# Altium footprint library Altium-INDUC.PcbLib: 28 footprints (part 1 of 2)
Each footprint in its own frame and in the unit in brackets; x right, y up, seen from the top. Pads: shape width x height; smd on the part's side, far side on the other; paste and mask are expansions set on the pad; w line width, h text height; cw(c..) or ccw(c..) is an arc to the next point about the centre after c.
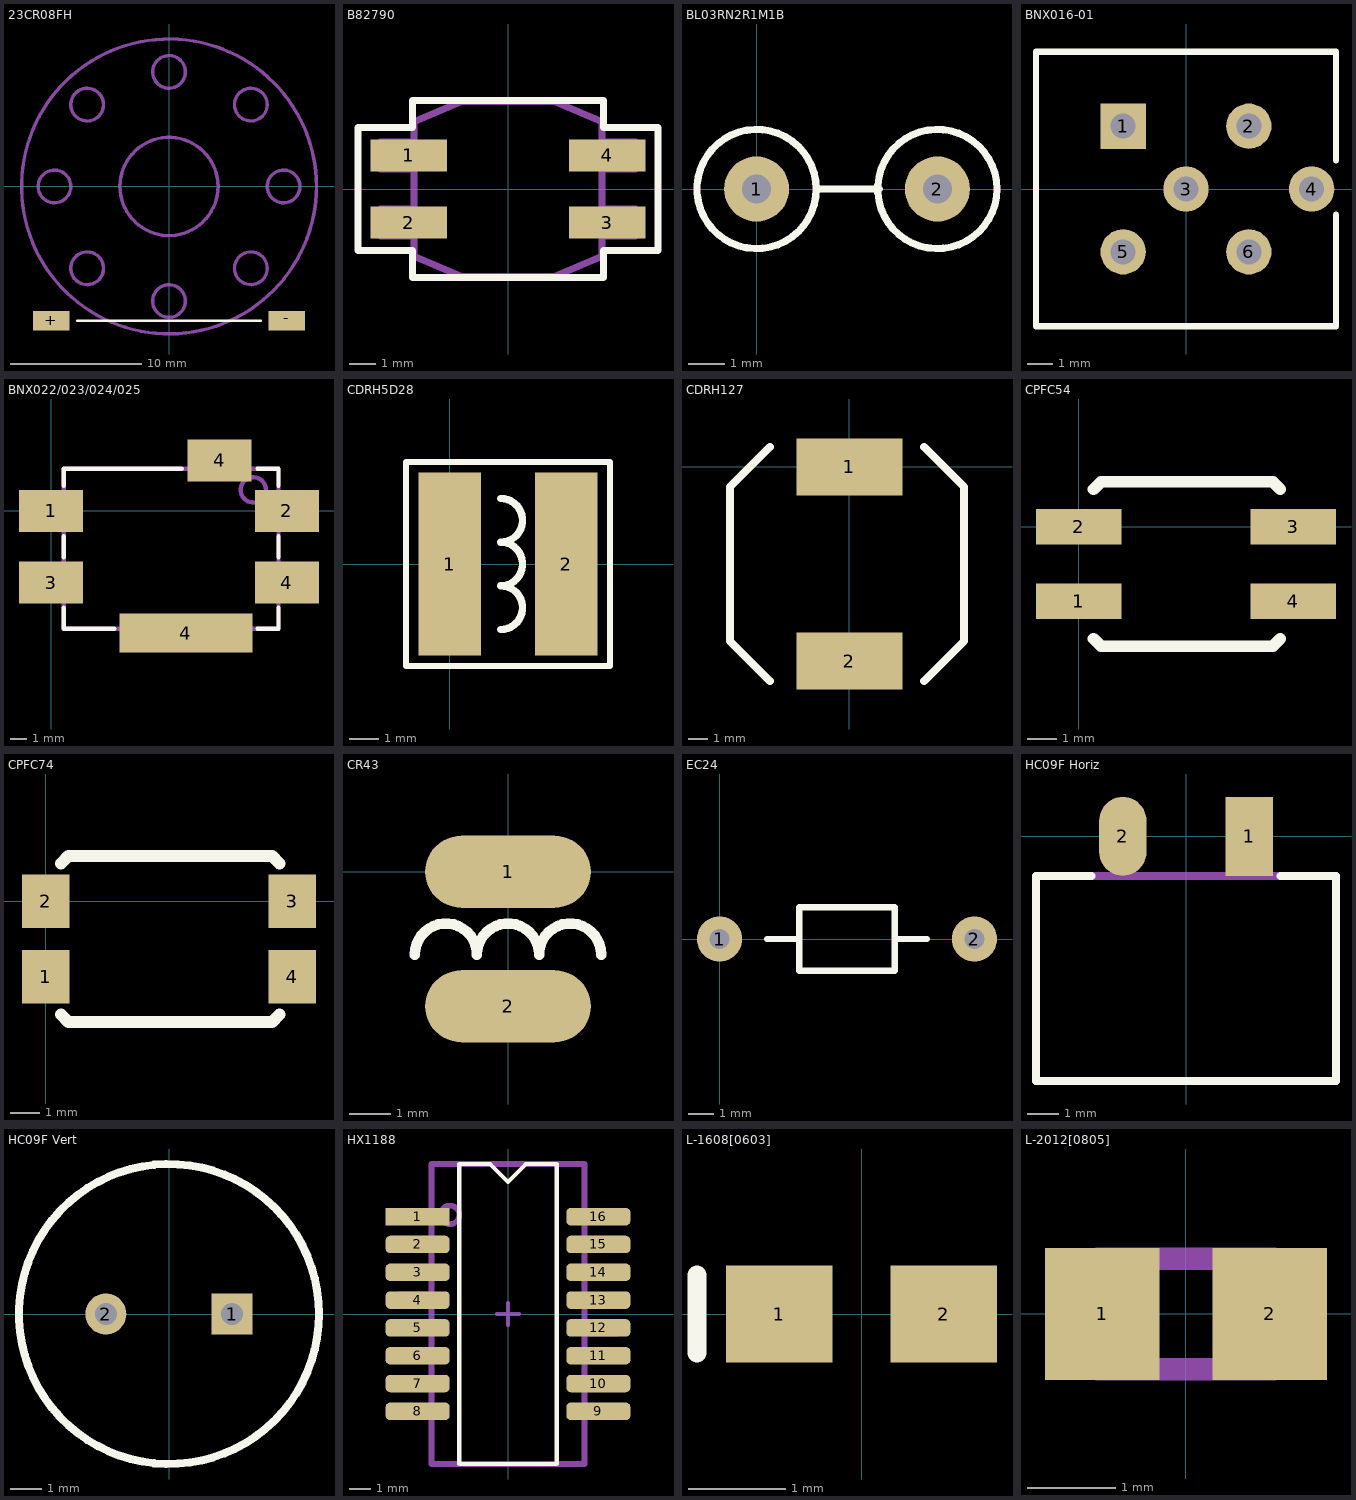
[diagram p0: the footprints below, top view; thin cyan lines are the x and y axes]

## 23CR08FH [mm] "Audio speaker d=23mm"
pads (2):
  rect 2.8x1.5 smd: +(-9,-10.25) -(9,-10.25)
Top Overlay:
  lines w0.2: -7,-10.25 7,-10.25
Mechanical 13:
  circle w0.254: c0,0 r11.261
  circle w0.254: c0,8.75 r1.25
  circle w0.254: c0,0 r3.75
  circle w0.254: c0,-8.75 r1.25
  circle w0.254: c8.75,0 r1.25
  circle w0.254: c-8.75,0 r1.25
  circle w0.254: c-6.25,6.25 r1.25
  circle w0.254: c6.25,6.25 r1.25
  circle w0.254: c6.25,-6.25 r1.25
  circle w0.254: c-6.25,-6.25 r1.25
  text ".Designator" at -3.375,-13.15 h2
3D body: height 7.3, standoff 3.8, extent -11.5,-11.5 11.409,11.455
3D body: height 3.8, standoff 2.2, extent -6.25,-6.25 6.3,6.325

## B82790 [mm]
height 4.8
pads (4):
  rect 2.85x1.2 smd: 1(-3.7,1.25) 2(-3.7,-1.25) 3(3.7,-1.25) 4(3.7,1.25)
Top Overlay:
  lines w0.254: -5.588,-2.286 -5.588,2.286 -3.556,2.286 -3.556,3.302 3.556,3.302 3.556,2.286 5.588,2.286 5.588,-2.286 3.556,-2.286 3.556,-3.302 -3.556,-3.302 -3.556,-2.286 -5.588,-2.286
Mechanical 13:
  lines w0.254: -3.5,-1.75 -4.75,-1.75 -4.75,-0.75 -3.5,-0.75 ; -3.5,0.75 -4.75,0.75 -4.75,1.75 -3.5,1.75 ; 3.5,-1.75 4.75,-1.75 4.75,-0.75 3.5,-0.75 ; 3.5,0.75 4.75,0.75 4.75,1.75 3.5,1.75 ; -3.5,-2.5 -3.5,2.5 -1.75,3.25 1.75,3.25 3.5,2.5 3.5,-2.5 1.75,-3.25 -1.75,-3.25 -3.5,-2.5
  text ".Designator" at -3.625,4.1 h2
3D body: height 4.8, standoff 0, extent -3.555,-3.301 3.555,3.301

## BL03RN2R1M1B [mm]
height 7.5
pads (2):
  round 1.8 hole 0.8: 1(0,0) 2(5,0)
Top Overlay:
  circle w0.2: c5,0 r1.65
  circle w0.2: c0,0 r1.65
  lines w0.2: 1.65,0 3.4,0
3D body: height 7.5, standoff 1, extent -1.141,-1.148 1.15,1.148
3D body: height 7.5, standoff 1, extent 3.859,-1.148 6.15,1.148

## BNX016-01 [mm]
height 8
pads (6):
  rect 1.8x1.8 hole 1: 1(-2.5,2.5)
  round 1.8 hole 1: 2(2.5,2.5) 3(0,0) 4(5,0) 5(-2.5,-2.5) 6(2.5,-2.5)
Top Overlay:
  lines w0.254: 5.969,-1.016 5.969,-5.461 -5.969,-5.461 -5.969,5.461 5.969,5.461 5.969,1.143
3D body: height 8, standoff 0, extent -5.969,-5.461 5.969,5.461

## BNX022/023/024/025 [mm] "SMD Noise Supressor"
pads (6):
  rect 3.8x2.5 smd: 1(0,0) 2(14,0) 3(0,-4.25) 4(10,3) 4(14,-4.25)
  rect 7.9x2.3 smd: 4(8,-7.25)
Top Overlay:
  lines w0.254: 0.75,-5.75 0.75,-7 3.75,-7 ; 0.75,-2.75 0.75,-1.5 ; 0.75,1.5 0.75,2.5 7.75,2.5 ; 12.25,-7 13.5,-7 13.5,-5.75 ; 12.25,2.5 13.5,2.5 13.5,1.5 ; 13.5,-2.75 13.5,-1.5
Mechanical 13:
  circle w0.254: c12,1.25 r0.75
  lines w0.254: 0.75,-7 13.5,-7 13.5,2.5 0.75,2.5 0.75,-7
  text ".Designator" at 0.375,3.85 h2
3D body: height 3.3, standoff 0.2, extent 0.75,-7 13.5,2.5

## CDRH5D28 [mm]
pads (2):
  rect 2.15x6.3 smd: 1(0,0) 2(4,0)
Top Overlay:
  lines w0.2: -1.5,-3.5 5.5,-3.5 5.5,3.5 -1.5,3.5 -1.5,-3.5
  lines w0.254: 1.75,-2.25 ccw(c1.75,-1.5) 1.75,-0.75 ccw(c1.75,0) 1.75,0.75 ccw(c1.75,1.5) 1.75,2.25
3D body: height 3.5, standoff 0.5, extent -0.988,-2.988 4.988,3

## CDRH127 [mm]
pads (2):
  rect 5.4x2.9 smd: 1(0,0) 2(0,-9.906)
Top Overlay:
  lines w0.4: -4.064,-10.922 -6.096,-8.89 -6.096,-1.016 -4.064,1.016 ; 3.81,-10.922 5.842,-8.89 5.842,-1.016 3.81,1.016
3D body: height 8.2, standoff 0.2, extent -6.096,-10.922 5.857,1.054

## CPFC54 [mm]
pads (4):
  rect 2.9x1.2 smd: 1(0,-2.54) 2(0,0) 3(7.3,0) 4(7.3,-2.54)
Top Overlay:
  lines w0.4: 0.508,-3.81 0.762,-4.064 6.604,-4.064 6.858,-3.81 ; 0.508,1.27 0.762,1.524 6.604,1.524 6.858,1.27

## CPFC74 [mm]
pads (4):
  rect 1.6x1.8 smd: 1(0,-2.54) 2(0,0) 3(8.3,0) 4(8.3,-2.54)
Top Overlay:
  lines w0.4: 0.508,-3.81 0.762,-4.064 7.62,-4.064 7.874,-3.81 ; 0.508,1.27 0.762,1.524 7.62,1.524 7.874,1.27

## CR43 [mm] "SMD POWER INDUCTOR"
pads (2):
  oval 4x1.75 smd: 1(0,0) 2(0,-3.25)
Top Overlay:
  lines w0.254: -2.25,-2 cw(c-1.5,-2) -0.75,-2 cw(c0,-2) 0.75,-2 cw(c1.5,-2) 2.25,-2
3D body: height 3.4, standoff 0.2, extent -2.2,-3.9 2.282,0.591

## EC24 [mm]
height 5
pads (2):
  round 1.8 hole 0.8: 1(0,0) 2(10.16,0)
Top Overlay:
  lines w0.254: 1.905,0 3.175,0 ; 6.985,0 8.255,0 ; 3.175,-1.27 6.985,-1.27 6.985,1.27 3.175,1.27 3.175,-1.27
3D body: height 5, standoff 2, extent 1.778,-1.397 8.382,1.397
3D body: height 3.75, standoff 3.25, extent -0.254,-0.254 10.414,0.254

## HC09F Horiz [mm] "Electro-Magnetic Sound Generator"
pads (2):
  rect 1.5x2.5 smd: 1(2,0)
  oval 1.5x2.5 smd: 2(-2,0)
Top Overlay:
  lines w0.254: -3,-1.25 -4.75,-1.25 -4.75,-7.75 4.75,-7.75 4.75,-1.25 3,-1.25
Mechanical 13:
  lines w0.254: -2.25,-1.25 -2.25,0.75 -1.75,0.75 -1.75,-1.25 ; 1.75,-1.25 1.75,0.75 2.25,0.75 2.25,-1.25 ; -4.75,-7.75 4.75,-7.75 4.75,-1.25 -4.75,-1.25 -4.75,-7.75
  text ".Designator" at -3.5,2.5 h2
Mechanical 14:
  lines w0.254: -4.75,-7.75 -4.75,-1.25 4.75,-1.25 4.75,-7.75 -4.75,-7.75
3D body: height 5.24, standoff -4.24, extent -4.75,-7.75 4.713,-1.25
3D body: height 0.75, standoff 0.25, extent 1.75,-1.25 2.248,1.25
3D body: height 0.75, standoff 0.25, extent -2.25,-1.25 -1.752,1.25

## HC09F Vert [mm] "Electro-Magnetic Sound Generator"
pads (2):
  rect 1.3x1.3 hole 0.7: 1(2,0)
  round 1.3 hole 0.7: 2(-2,0)
Top Overlay:
  circle w0.254: c0,0 r4.75
3D body: height 6.7, standoff 0.2, extent -4.75,-4.75 4.713,4.731
3D body: height 4, standoff 0, extent -2.25,-0.25 -1.752,0.249
3D body: height 4, standoff 0, extent 1.75,-0.25 2.248,0.249

## HX1188 [mil]
pads (16):
  rect 115x31.5 smd: 1(-162.5,175)
  rrect50% 115x31.5 smd: 2(-162.5,125) 3(-162.5,75) 4(-162.5,25) 5(-162.5,-25) 6(-162.5,-75) 7(-162.5,-125) 8(-162.5,-175) 9(162.5,-175) 10(162.5,-125) 11(162.5,-75) 12(162.5,-25) 13(162.5,25) 14(162.5,75) 15(162.5,125) 16(162.5,175)
Top Overlay:
  lines w7.87: -87.5,-269.69 -87.5,269.69 -32.19,269.69 0,237.5 32.19,269.69 87.5,269.69 87.5,-269.69 -87.5,-269.69
Mechanical 13:
  circle w10: c-104.33,178.15 r16.73
  lines w10: -137.8,-184.65 -196.85,-184.65 -196.85,-164.96 -137.8,-164.96 ; -137.8,-134.65 -196.85,-134.65 -196.85,-114.96 -137.8,-114.96 ; -137.8,-84.65 -196.85,-84.65 -196.85,-64.96 -137.8,-64.96 ; -137.8,-34.65 -196.85,-34.65 -196.85,-14.96 -137.8,-14.96 ; -137.8,15.35 -196.85,15.35 -196.85,35.04 -137.8,35.04 ; -137.8,65.35 -196.85,65.35 -196.85,85.04 -137.8,85.04 ; -137.8,115.35 -196.85,115.35 -196.85,135.04 -137.8,135.04 ; -137.8,165.35 -196.85,165.35 -196.85,185.04 -137.8,185.04 ; 137.8,-185.04 196.85,-185.04 196.85,-165.35 137.8,-165.35 ; 137.8,-135.04 196.85,-135.04 196.85,-115.35 137.8,-115.35 ; 137.8,-85.04 196.85,-85.04 196.85,-65.35 137.8,-65.35 ; 137.8,-35.04 196.85,-35.04 196.85,-15.35 137.8,-15.35 ; 137.8,14.96 196.85,14.96 196.85,34.65 137.8,34.65 ; 137.8,64.96 196.85,64.96 196.85,84.65 137.8,84.65 ; 137.8,114.96 196.85,114.96 196.85,134.65 137.8,134.65 ; 137.8,164.96 196.85,164.96 196.85,184.65 137.8,184.65 ; -137.5,-269.69 -137.5,269.69 137.5,269.69 137.5,-269.69 -137.5,-269.69
  text ".Designator" at -132.87,309.06 h78.74
Mechanical 15:
  lines w7.87: -19.68,0 19.68,0 ; 0,-19.68 0,19.68
3D body: height 232.28, standoff 3.94, extent -137.5,-269.69 137.5,269.69

## L-1608[0603] [mm]
height 0.55
pads (2):
  rect 1.1x1 smd: 1(-0.85,0) 2(0.85,0)
Top Overlay:
  lines w0.2: -1.7,-0.4 -1.7,0.4
3D body: height 0.37, standoff 0, extent -0.8,-0.401 0.8,0.401

## L-2012[0805] [mm]
height 0.65
pads (2):
  rect 1.3x1.5 smd: 1(-0.95,0) 2(0.95,0)
Mechanical 13:
  lines w0.254: -1,-0.625 1,-0.625 1,0.625 -1,0.625 -1,-0.625
  text ".Designator" at -1.125,1.35 h2
3D body: height 0.47, standoff 0, extent -1,-0.626 1,0.626